# Altium footprint library PCB - CONNECTOR - MOLEX - MOLEX 0559320310.PcbLib: 1 footprints
Each footprint in its own frame and in the unit in brackets; x right, y up, seen from the top. Pads: shape width x height; smd on the part's side, far side on the other; paste and mask are expansions set on the pad; w line width, h text height; cw(c..) or ccw(c..) is an arc to the next point about the centre after c.
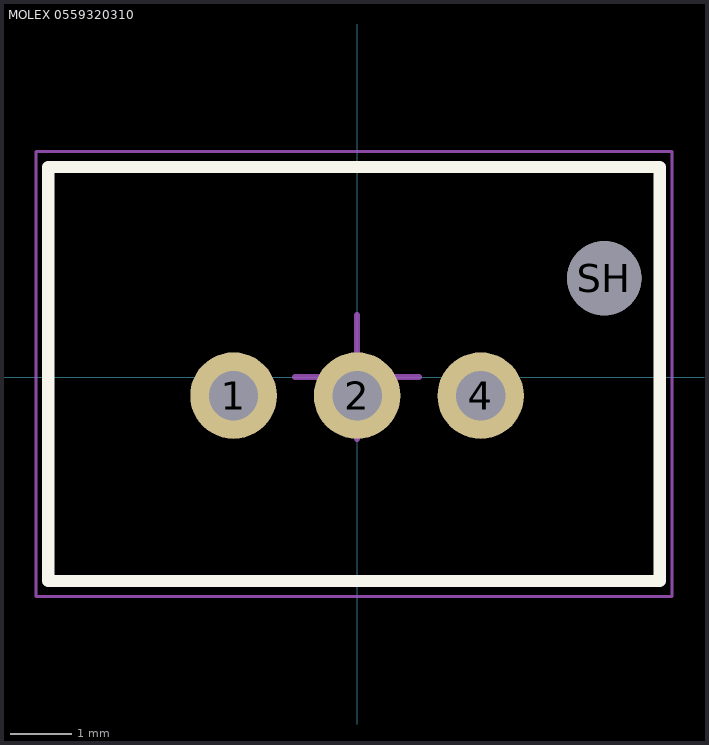
[diagram p0: the footprint, top view; thin cyan lines are the x and y axes]

## MOLEX 0559320310 [mm] "Connector Header Through Hole 3 position, 2mm Pitch, 10x6.7mm Body"
height 9.75
pads (4):
  round 1.4 hole 0.8: 1(-2,-0.3) 2(0,-0.3) 4(2,-0.3)
  round 1.2 hole 1.2: SH(4,1.6)
Top Overlay:
  lines w0.2: -5,-3.3 -5,3.4 4.9,3.4 4.9,-3.3 -5,-3.3
Mechanical 13:
  lines w0.1: -5,-3.3 4.9,-3.3 4.9,3.4 -5,3.4 -5,-3.3
Mechanical 15 (Mech15):
  lines w0.05: -5.2,-3.55 5.1,-3.55 5.1,3.65 -5.2,3.65 -5.2,-3.55
  lines w0.1: -1,0 0,0 ; 0,-1 0,0 ; 0,1 0,0 ; 1,0 0,0
3D body: height 9.75, standoff -3.2, extent -5,-3.3 5,3.4